# EAGLE library part BT111-A-HCI (library BT111-A-HCI)
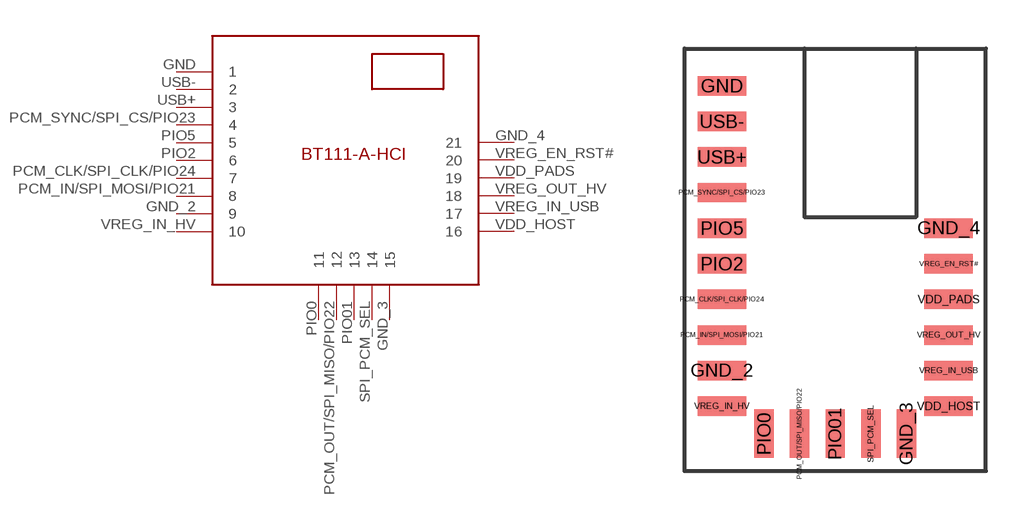
[diagram p0: symbol with the pads of BT111-A-HCI; footprint BT111-A-HCI]

Designator prefix -

## BT111-A-HCI  [BT111-A-HCI]
GND  1
GND_2  9
GND_3  15
GND_4  21
PCM_CLK/SPI_CLK/PIO24  7
PCM_IN/SPI_MOSI/PIO21  8
PCM_OUT/SPI_MISO/PIO22  12
PCM_SYNC/SPI_CS/PIO23  4
PIO0  11
PIO01  13
PIO2  6
PIO5  5
SPI_PCM_SEL  14
USB+  3
USB-  2
VDD_HOST  16
VDD_PADS  19
VREG_EN_RST#  20
VREG_IN_HV  10
VREG_IN_USB  17
VREG_OUT_HV  18

## Footprint BT111-A-HCI (pad centres in mm)
smd 1.5 x 0.6: GND 1.15,11.9; GND_2 1.15,3.1; GND_4 8.15,7.5; PCM_CLK/SPI_CLK/PIO24 1.15,5.3; PCM_IN/SPI_MOSI/PIO21 1.15,4.2; PCM_SYNC/SPI_CS/PIO23 1.15,8.6; PIO2 1.15,6.4; PIO5 1.15,7.5; USB+ 1.15,9.7; USB- 1.15,10.8; VDD_HOST 8.15,2; VDD_PADS 8.15,5.3; VREG_EN_RST# 8.15,6.4; VREG_IN_HV 1.15,2; VREG_IN_USB 8.15,3.1; VREG_OUT_HV 8.15,4.2
smd 0.6 x 1.5: GND_3 6.85,1.15; PCM_OUT/SPI_MISO/PIO22 3.55,1.15; PIO0 2.45,1.15; PIO01 4.65,1.15; SPI_PCM_SEL 5.75,1.15